# Altium integrated library National Semiconductor Amplifier.IntLib: 1665 symbols (part 13 of 44)
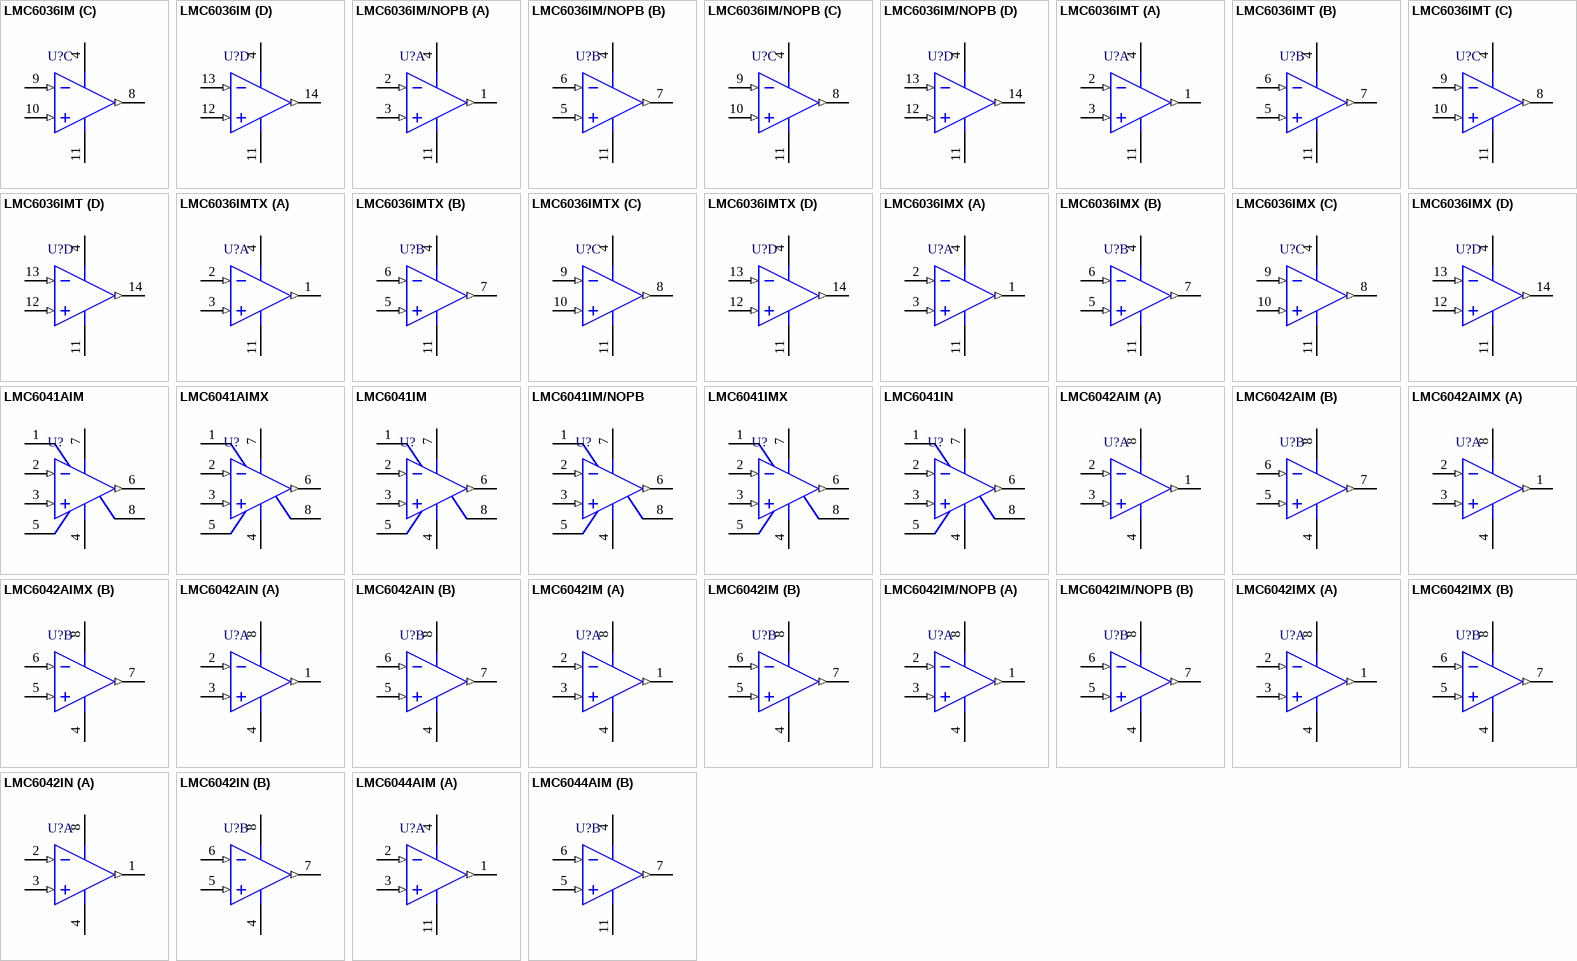
[diagram p96: symbols LMC6036IM to LMC6044AIM]

## LMC6036IMX
designator U?
Low Power 2.7V Single Supply CMOS Operational Amplifier, 14-pin Narrow SOIC; PartNumber: LMC6036IMX; Manufacturer: National Semiconductor; PackageTopMarking: NSUZXYTTE#*LMC6036IM; PowerWise: N; CompType: Amplifiers; High-Reliability: Y; DatasheetVersion: Oct-2002; PackageVersion: revJ, Jan-1996; PackageReference: M14A; PackageDescription: Molded Package S.O., .150in Wide, 14 Lead; RoHS: N; PinCount: 14; Code_JEDEC: MS-012AB; Code_IPC: SOIC127P600-14; ComponentLink1Description: Manufacturer URL; ComponentLink1URL: http://www.national.com/; ComponentLink2Description: LMC6036 Datasheet; ComponentLink2URL: http://www.national.com/ds/LM/LMC6036.pdf; ComponentLink3Description: LMC6036 Web Page; ComponentLink3URL: http://www.national.com/pf/LM/LMC6036.html; ComponentLink4Description: M14A Package Page; ComponentLink4URL: http://www.national.com/packaging/folders/m14a.html
footprint M14A_N (SOIC, 14-Leads, Body 8.6x3.9mm, Pitch 1.27mm, IPC Medium Density)
footprint M14A_L (SOIC, 14-Leads, Body 8.6x3.9mm, Pitch 1.27mm, IPC High Density)
footprint M14A_M (SOIC, 14-Leads, Body 8.6x3.9mm, Pitch 1.27mm, IPC Low Density)
pins on every part: 4 V+ (power), 11 V- (power)
part A pins: 1 OUTA (out), 2 INA- (in), 3 INA+ (in)
part B pins: 5 INB+ (in), 6 INB- (in), 7 OUTB (out)
part C pins: 8 OUTC (out), 9 INC- (in), 10 INC+ (in)
part D pins: 12 IND+ (in), 13 IND- (in), 14 OUTD (out)

## LMC6041AIM
designator U?
CMOS Single Micropower Operational Amplifier, 8-pin Narrow SOIC; PartNumber: LMC6041AIM; Manufacturer: National Semiconductor; PackageTopMarking: NSZXTT*LMC60*41AIM; PowerWise: N; CompType: Amplifiers; High-Reliability: Y; DatasheetVersion: Aug-2000; PackageVersion: revM, May-2009; PackageReference: M08A; PackageDescription: SOIC Narrow, 4.9 x 3.9 x 1.45mm, 8 Lead, 1.27mm Pitch; RoHS: N; PinCount: 8; Code_JEDEC: MS-012-AA; Code_IPC: SOIC127P600-8; ComponentLink1Description: Manufacturer URL; ComponentLink1URL: http://www.national.com/; ComponentLink2Description: LMC6041 Datasheet; ComponentLink2URL: http://www.national.com/ds/LM/LMC6041.pdf; ComponentLink3Description: LMC6041 Web Page; ComponentLink3URL: http://www.national.com/pf/LM/LMC6041.html; ComponentLink4Description: M08A Package Page; ComponentLink4URL: http://www.national.com/packaging/folders/m08a.html
footprint M08A_N (SOIC, 8-Leads, Body 4.9x3.9mm, Pitch 1.27mm, IPC Medium Density)
footprint M08A_L (SOIC, 8-Leads, Body 4.9x3.9mm, Pitch 1.27mm, IPC High Density)
footprint M08A_M (SOIC, 8-Leads, Body 4.9x3.9mm, Pitch 1.27mm, IPC Low Density)
pins: 1 NC, 2 IN- (in), 3 IN+ (in), 4 V- (power), 5 NC, 6 OUT (out), 7 V+ (power), 8 NC

## LMC6041AIMX
designator U?
CMOS Single Micropower Operational Amplifier, 8-pin Narrow SOIC; PartNumber: LMC6041AIMX; Manufacturer: National Semiconductor; PackageTopMarking: NSZXTT*LMC60*41AIM; PowerWise: N; CompType: Amplifiers; High-Reliability: Y; DatasheetVersion: Aug-2000; PackageVersion: revM, May-2009; PackageReference: M08A; PackageDescription: SOIC Narrow, 4.9 x 3.9 x 1.45mm, 8 Lead, 1.27mm Pitch; RoHS: N; PinCount: 8; Code_JEDEC: MS-012-AA; Code_IPC: SOIC127P600-8; ComponentLink1Description: Manufacturer URL; ComponentLink1URL: http://www.national.com/; ComponentLink2Description: LMC6041 Datasheet; ComponentLink2URL: http://www.national.com/ds/LM/LMC6041.pdf; ComponentLink3Description: LMC6041 Web Page; ComponentLink3URL: http://www.national.com/pf/LM/LMC6041.html; ComponentLink4Description: M08A Package Page; ComponentLink4URL: http://www.national.com/packaging/folders/m08a.html
footprint M08A_N (SOIC, 8-Leads, Body 4.9x3.9mm, Pitch 1.27mm, IPC Medium Density)
footprint M08A_L (SOIC, 8-Leads, Body 4.9x3.9mm, Pitch 1.27mm, IPC High Density)
footprint M08A_M (SOIC, 8-Leads, Body 4.9x3.9mm, Pitch 1.27mm, IPC Low Density)
pins: 1 NC, 2 IN- (in), 3 IN+ (in), 4 V- (power), 5 NC, 6 OUT (out), 7 V+ (power), 8 NC

## LMC6041IM
designator U?
CMOS Single Micropower Operational Amplifier, 8-pin Narrow SOIC; PartNumber: LMC6041IM; Manufacturer: National Semiconductor; PackageTopMarking: NSZXTT*LMC60*41IM; PowerWise: N; CompType: Amplifiers; High-Reliability: Y; DatasheetVersion: Aug-2000; PackageVersion: revM, May-2009; PackageReference: M08A; PackageDescription: SOIC Narrow, 4.9 x 3.9 x 1.45mm, 8 Lead, 1.27mm Pitch; RoHS: N; PinCount: 8; Code_JEDEC: MS-012-AA; Code_IPC: SOIC127P600-8; ComponentLink1Description: Manufacturer URL; ComponentLink1URL: http://www.national.com/; ComponentLink2Description: LMC6041 Datasheet; ComponentLink2URL: http://www.national.com/ds/LM/LMC6041.pdf; ComponentLink3Description: LMC6041 Web Page; ComponentLink3URL: http://www.national.com/pf/LM/LMC6041.html; ComponentLink4Description: M08A Package Page; ComponentLink4URL: http://www.national.com/packaging/folders/m08a.html
footprint M08A_N (SOIC, 8-Leads, Body 4.9x3.9mm, Pitch 1.27mm, IPC Medium Density)
footprint M08A_L (SOIC, 8-Leads, Body 4.9x3.9mm, Pitch 1.27mm, IPC High Density)
footprint M08A_M (SOIC, 8-Leads, Body 4.9x3.9mm, Pitch 1.27mm, IPC Low Density)
pins: 1 NC, 2 IN- (in), 3 IN+ (in), 4 V- (power), 5 NC, 6 OUT (out), 7 V+ (power), 8 NC

## LMC6041IM/NOPB
designator U?
CMOS Single Micropower Operational Amplifier, 8-pin Narrow SOIC, Pb-Free; PartNumber: LMC6041IM/NOPB; Manufacturer: National Semiconductor; PackageTopMarking: NSZXTT*LMC60*41IM; PowerWise: N; CompType: Amplifiers; High-Reliability: Y; DatasheetVersion: Aug-2000; PackageVersion: revM, May-2009; PackageReference: M08A; PackageDescription: SOIC Narrow, 4.9 x 3.9 x 1.45mm, 8 Lead, 1.27mm Pitch; RoHS: Y; PinCount: 8; Code_JEDEC: MS-012-AA; Code_IPC: SOIC127P600-8; ComponentLink1Description: Manufacturer URL; ComponentLink1URL: http://www.national.com/; ComponentLink2Description: LMC6041 Datasheet; ComponentLink2URL: http://www.national.com/ds/LM/LMC6041.pdf; ComponentLink3Description: LMC6041 Web Page; ComponentLink3URL: http://www.national.com/pf/LM/LMC6041.html; ComponentLink4Description: M08A Package Page; ComponentLink4URL: http://www.national.com/packaging/folders/m08a.html
footprint M08A_N (SOIC, 8-Leads, Body 4.9x3.9mm, Pitch 1.27mm, IPC Medium Density)
footprint M08A_L (SOIC, 8-Leads, Body 4.9x3.9mm, Pitch 1.27mm, IPC High Density)
footprint M08A_M (SOIC, 8-Leads, Body 4.9x3.9mm, Pitch 1.27mm, IPC Low Density)
pins: 1 NC, 2 IN- (in), 3 IN+ (in), 4 V- (power), 5 NC, 6 OUT (out), 7 V+ (power), 8 NC

## LMC6041IMX
designator U?
CMOS Single Micropower Operational Amplifier, 8-pin Narrow SOIC; PartNumber: LMC6041IMX; Manufacturer: National Semiconductor; PackageTopMarking: NSZXTT*LMC60*41IM; PowerWise: N; CompType: Amplifiers; High-Reliability: Y; DatasheetVersion: Aug-2000; PackageVersion: revM, May-2009; PackageReference: M08A; PackageDescription: SOIC Narrow, 4.9 x 3.9 x 1.45mm, 8 Lead, 1.27mm Pitch; RoHS: N; PinCount: 8; Code_JEDEC: MS-012-AA; Code_IPC: SOIC127P600-8; ComponentLink1Description: Manufacturer URL; ComponentLink1URL: http://www.national.com/; ComponentLink2Description: LMC6041 Datasheet; ComponentLink2URL: http://www.national.com/ds/LM/LMC6041.pdf; ComponentLink3Description: LMC6041 Web Page; ComponentLink3URL: http://www.national.com/pf/LM/LMC6041.html; ComponentLink4Description: M08A Package Page; ComponentLink4URL: http://www.national.com/packaging/folders/m08a.html
footprint M08A_N (SOIC, 8-Leads, Body 4.9x3.9mm, Pitch 1.27mm, IPC Medium Density)
footprint M08A_L (SOIC, 8-Leads, Body 4.9x3.9mm, Pitch 1.27mm, IPC High Density)
footprint M08A_M (SOIC, 8-Leads, Body 4.9x3.9mm, Pitch 1.27mm, IPC Low Density)
pins: 1 NC, 2 IN- (in), 3 IN+ (in), 4 V- (power), 5 NC, 6 OUT (out), 7 V+ (power), 8 NC

## LMC6041IN
designator U?
CMOS Single Micropower Operational Amplifier, 8-pin MDIP; PartNumber: LMC6041IN; Manufacturer: National Semiconductor; PackageTopMarking: NSUZXYTTE#*LMC60*41IN; PowerWise: N; CompType: Amplifiers; High-Reliability: Y; DatasheetVersion: Aug-2000; PackageVersion: revG, May-2006; PackageReference: N08E; PackageDescription: MDIP, .365 x .250 x .130in, 8 Lead, .100in Pitch; RoHS: N; PinCount: 8; Code_JEDEC: MS-001-BA; ComponentLink1Description: Manufacturer URL; ComponentLink1URL: http://www.national.com/; ComponentLink2Description: LMC6041 Datasheet; ComponentLink2URL: http://www.national.com/ds/LM/LMC6041.pdf; ComponentLink3Description: LMC6041 Web Page; ComponentLink3URL: http://www.national.com/pf/LM/LMC6041.html; ComponentLink4Description: N08E Package Page; ComponentLink4URL: http://www.national.com/packaging/folders/n08e.html
footprint N08E (DIP, 8-Leads, Row Spacing 7.62mm, Pitch 2.54mm, Body 9.91x6.35mm)
pins: 1 NC, 2 IN- (in), 3 IN+ (in), 4 V- (power), 5 NC, 6 OUT (out), 7 V+ (power), 8 NC

## LMC6042AIM
designator U?
CMOS Dual Micropower Operational Amplifier, 8-pin Narrow SOIC; PartNumber: LMC6042AIM; Manufacturer: National Semiconductor; PackageTopMarking: NSZXTT*LMC60*42AIM; PowerWise: Y; CompType: Amplifiers; DatasheetVersion: Aug-2000; PackageVersion: revM, May-2009; PackageReference: M08A; PackageDescription: SOIC Narrow, 4.9 x 3.9 x 1.45mm, 8 Lead, 1.27mm Pitch; RoHS: N; PinCount: 8; High-Reliability: Y; Code_JEDEC: MS-012-AA; Code_IPC: SOIC127P600-8; ComponentLink1Description: Manufacturer URL; ComponentLink1URL: http://www.national.com/; ComponentLink2Description: LMC6042 Datasheet; ComponentLink2URL: http://www.national.com/ds/LM/LMC6042.pdf; ComponentLink3Description: LMC6042 Web Page; ComponentLink3URL: http://www.national.com/pf/LM/LMC6042.html; ComponentLink4Description: M08A Package Page; ComponentLink4URL: http://www.national.com/packaging/folders/m08a.html
footprint M08A_N (SOIC, 8-Leads, Body 4.9x3.9mm, Pitch 1.27mm, IPC Medium Density)
footprint M08A_L (SOIC, 8-Leads, Body 4.9x3.9mm, Pitch 1.27mm, IPC High Density)
footprint M08A_M (SOIC, 8-Leads, Body 4.9x3.9mm, Pitch 1.27mm, IPC Low Density)
pins on every part: 4 V- (power), 8 V+ (power)
part A pins: 1 OUTA (out), 2 INA- (in), 3 INA+ (in)
part B pins: 5 INB+ (in), 6 INB- (in), 7 OUTB (out)

## LMC6042AIMX
designator U?
CMOS Dual Micropower Operational Amplifier, 8-pin Narrow SOIC; PartNumber: LMC6042AIMX; Manufacturer: National Semiconductor; PackageTopMarking: NSZXTT*LMC60*42AIM; PowerWise: Y; CompType: Amplifiers; DatasheetVersion: Aug-2000; PackageVersion: revM, May-2009; PackageReference: M08A; PackageDescription: SOIC Narrow, 4.9 x 3.9 x 1.45mm, 8 Lead, 1.27mm Pitch; RoHS: N; PinCount: 8; High-Reliability: Y; Code_JEDEC: MS-012-AA; Code_IPC: SOIC127P600-8; ComponentLink1Description: Manufacturer URL; ComponentLink1URL: http://www.national.com/; ComponentLink2Description: LMC6042 Datasheet; ComponentLink2URL: http://www.national.com/ds/LM/LMC6042.pdf; ComponentLink3Description: LMC6042 Web Page; ComponentLink3URL: http://www.national.com/pf/LM/LMC6042.html; ComponentLink4Description: M08A Package Page; ComponentLink4URL: http://www.national.com/packaging/folders/m08a.html
footprint M08A_N (SOIC, 8-Leads, Body 4.9x3.9mm, Pitch 1.27mm, IPC Medium Density)
footprint M08A_L (SOIC, 8-Leads, Body 4.9x3.9mm, Pitch 1.27mm, IPC High Density)
footprint M08A_M (SOIC, 8-Leads, Body 4.9x3.9mm, Pitch 1.27mm, IPC Low Density)
pins on every part: 4 V- (power), 8 V+ (power)
part A pins: 1 OUTA (out), 2 INA- (in), 3 INA+ (in)
part B pins: 5 INB+ (in), 6 INB- (in), 7 OUTB (out)

## LMC6042AIN
designator U?
CMOS Dual Micropower Operational Amplifier, 8-pin MDIP; PartNumber: LMC6042AIN; Manufacturer: National Semiconductor; PackageTopMarking: NSUZXYTTE#*LMC60*42AIN; PowerWise: Y; CompType: Amplifiers; DatasheetVersion: Aug-2000; PackageVersion: revG, May-2006; PackageReference: N08E; PackageDescription: MDIP, .365 x .250 x .130in, 8 Lead, .100in Pitch; RoHS: N; PinCount: 8; High-Reliability: Y; Code_JEDEC: MS-001-BA; ComponentLink1Description: Manufacturer URL; ComponentLink1URL: http://www.national.com/; ComponentLink2Description: LMC6042 Datasheet; ComponentLink2URL: http://www.national.com/ds/LM/LMC6042.pdf; ComponentLink3Description: LMC6042 Web Page; ComponentLink3URL: http://www.national.com/pf/LM/LMC6042.html; ComponentLink4Description: N08E Package Page; ComponentLink4URL: http://www.national.com/packaging/folders/n08e.html
footprint N08E (DIP, 8-Leads, Row Spacing 7.62mm, Pitch 2.54mm, Body 9.91x6.35mm)
pins on every part: 4 V- (power), 8 V+ (power)
part A pins: 1 OUTA (out), 2 INA- (in), 3 INA+ (in)
part B pins: 5 INB+ (in), 6 INB- (in), 7 OUTB (out)

## LMC6042IM
designator U?
CMOS Dual Micropower Operational Amplifier, 8-pin Narrow SOIC; PartNumber: LMC6042IM; Manufacturer: National Semiconductor; PackageTopMarking: NSZXTT*LMC60*42IM; PowerWise: Y; CompType: Amplifiers; DatasheetVersion: Aug-2000; PackageVersion: revM, May-2009; PackageReference: M08A; PackageDescription: SOIC Narrow, 4.9 x 3.9 x 1.45mm, 8 Lead, 1.27mm Pitch; RoHS: N; PinCount: 8; High-Reliability: Y; Code_JEDEC: MS-012-AA; Code_IPC: SOIC127P600-8; ComponentLink1Description: Manufacturer URL; ComponentLink1URL: http://www.national.com/; ComponentLink2Description: LMC6042 Datasheet; ComponentLink2URL: http://www.national.com/ds/LM/LMC6042.pdf; ComponentLink3Description: LMC6042 Web Page; ComponentLink3URL: http://www.national.com/pf/LM/LMC6042.html; ComponentLink4Description: M08A Package Page; ComponentLink4URL: http://www.national.com/packaging/folders/m08a.html
footprint M08A_N (SOIC, 8-Leads, Body 4.9x3.9mm, Pitch 1.27mm, IPC Medium Density)
footprint M08A_L (SOIC, 8-Leads, Body 4.9x3.9mm, Pitch 1.27mm, IPC High Density)
footprint M08A_M (SOIC, 8-Leads, Body 4.9x3.9mm, Pitch 1.27mm, IPC Low Density)
pins on every part: 4 V- (power), 8 V+ (power)
part A pins: 1 OUTA (out), 2 INA- (in), 3 INA+ (in)
part B pins: 5 INB+ (in), 6 INB- (in), 7 OUTB (out)

## LMC6042IM/NOPB
designator U?
CMOS Dual Micropower Operational Amplifier, 8-pin Narrow SOIC, Pb-Free; PartNumber: LMC6042IM/NOPB; Manufacturer: National Semiconductor; PackageTopMarking: NSZXTT*LMC60*42IM; PowerWise: Y; CompType: Amplifiers; DatasheetVersion: Aug-2000; PackageVersion: revM, May-2009; PackageReference: M08A; PackageDescription: SOIC Narrow, 4.9 x 3.9 x 1.45mm, 8 Lead, 1.27mm Pitch; RoHS: Y; PinCount: 8; High-Reliability: Y; Code_JEDEC: MS-012-AA; Code_IPC: SOIC127P600-8; ComponentLink1Description: Manufacturer URL; ComponentLink1URL: http://www.national.com/; ComponentLink2Description: LMC6042 Datasheet; ComponentLink2URL: http://www.national.com/ds/LM/LMC6042.pdf; ComponentLink3Description: LMC6042 Web Page; ComponentLink3URL: http://www.national.com/pf/LM/LMC6042.html; ComponentLink4Description: M08A Package Page; ComponentLink4URL: http://www.national.com/packaging/folders/m08a.html
footprint M08A_N (SOIC, 8-Leads, Body 4.9x3.9mm, Pitch 1.27mm, IPC Medium Density)
footprint M08A_L (SOIC, 8-Leads, Body 4.9x3.9mm, Pitch 1.27mm, IPC High Density)
footprint M08A_M (SOIC, 8-Leads, Body 4.9x3.9mm, Pitch 1.27mm, IPC Low Density)
pins on every part: 4 V- (power), 8 V+ (power)
part A pins: 1 OUTA (out), 2 INA- (in), 3 INA+ (in)
part B pins: 5 INB+ (in), 6 INB- (in), 7 OUTB (out)

## LMC6042IMX
designator U?
CMOS Dual Micropower Operational Amplifier, 8-pin Narrow SOIC; PartNumber: LMC6042IMX; Manufacturer: National Semiconductor; PackageTopMarking: NSZXTT*LMC60*42IM; PowerWise: Y; CompType: Amplifiers; DatasheetVersion: Aug-2000; PackageVersion: revM, May-2009; PackageReference: M08A; PackageDescription: SOIC Narrow, 4.9 x 3.9 x 1.45mm, 8 Lead, 1.27mm Pitch; RoHS: N; PinCount: 8; High-Reliability: Y; Code_JEDEC: MS-012-AA; Code_IPC: SOIC127P600-8; ComponentLink1Description: Manufacturer URL; ComponentLink1URL: http://www.national.com/; ComponentLink2Description: LMC6042 Datasheet; ComponentLink2URL: http://www.national.com/ds/LM/LMC6042.pdf; ComponentLink3Description: LMC6042 Web Page; ComponentLink3URL: http://www.national.com/pf/LM/LMC6042.html; ComponentLink4Description: M08A Package Page; ComponentLink4URL: http://www.national.com/packaging/folders/m08a.html
footprint M08A_N (SOIC, 8-Leads, Body 4.9x3.9mm, Pitch 1.27mm, IPC Medium Density)
footprint M08A_L (SOIC, 8-Leads, Body 4.9x3.9mm, Pitch 1.27mm, IPC High Density)
footprint M08A_M (SOIC, 8-Leads, Body 4.9x3.9mm, Pitch 1.27mm, IPC Low Density)
pins on every part: 4 V- (power), 8 V+ (power)
part A pins: 1 OUTA (out), 2 INA- (in), 3 INA+ (in)
part B pins: 5 INB+ (in), 6 INB- (in), 7 OUTB (out)

## LMC6042IN
designator U?
CMOS Dual Micropower Operational Amplifier, 8-pin MDIP; PartNumber: LMC6042IN; Manufacturer: National Semiconductor; PackageTopMarking: NSUZXYTTE#*LMC60*42IN; PowerWise: Y; CompType: Amplifiers; DatasheetVersion: Aug-2000; PackageVersion: revG, May-2006; PackageReference: N08E; PackageDescription: MDIP, .365 x .250 x .130in, 8 Lead, .100in Pitch; RoHS: N; PinCount: 8; High-Reliability: Y; Code_JEDEC: MS-001-BA; ComponentLink1Description: Manufacturer URL; ComponentLink1URL: http://www.national.com/; ComponentLink2Description: LMC6042 Datasheet; ComponentLink2URL: http://www.national.com/ds/LM/LMC6042.pdf; ComponentLink3Description: LMC6042 Web Page; ComponentLink3URL: http://www.national.com/pf/LM/LMC6042.html; ComponentLink4Description: N08E Package Page; ComponentLink4URL: http://www.national.com/packaging/folders/n08e.html
footprint N08E (DIP, 8-Leads, Row Spacing 7.62mm, Pitch 2.54mm, Body 9.91x6.35mm)
pins on every part: 4 V- (power), 8 V+ (power)
part A pins: 1 OUTA (out), 2 INA- (in), 3 INA+ (in)
part B pins: 5 INB+ (in), 6 INB- (in), 7 OUTB (out)

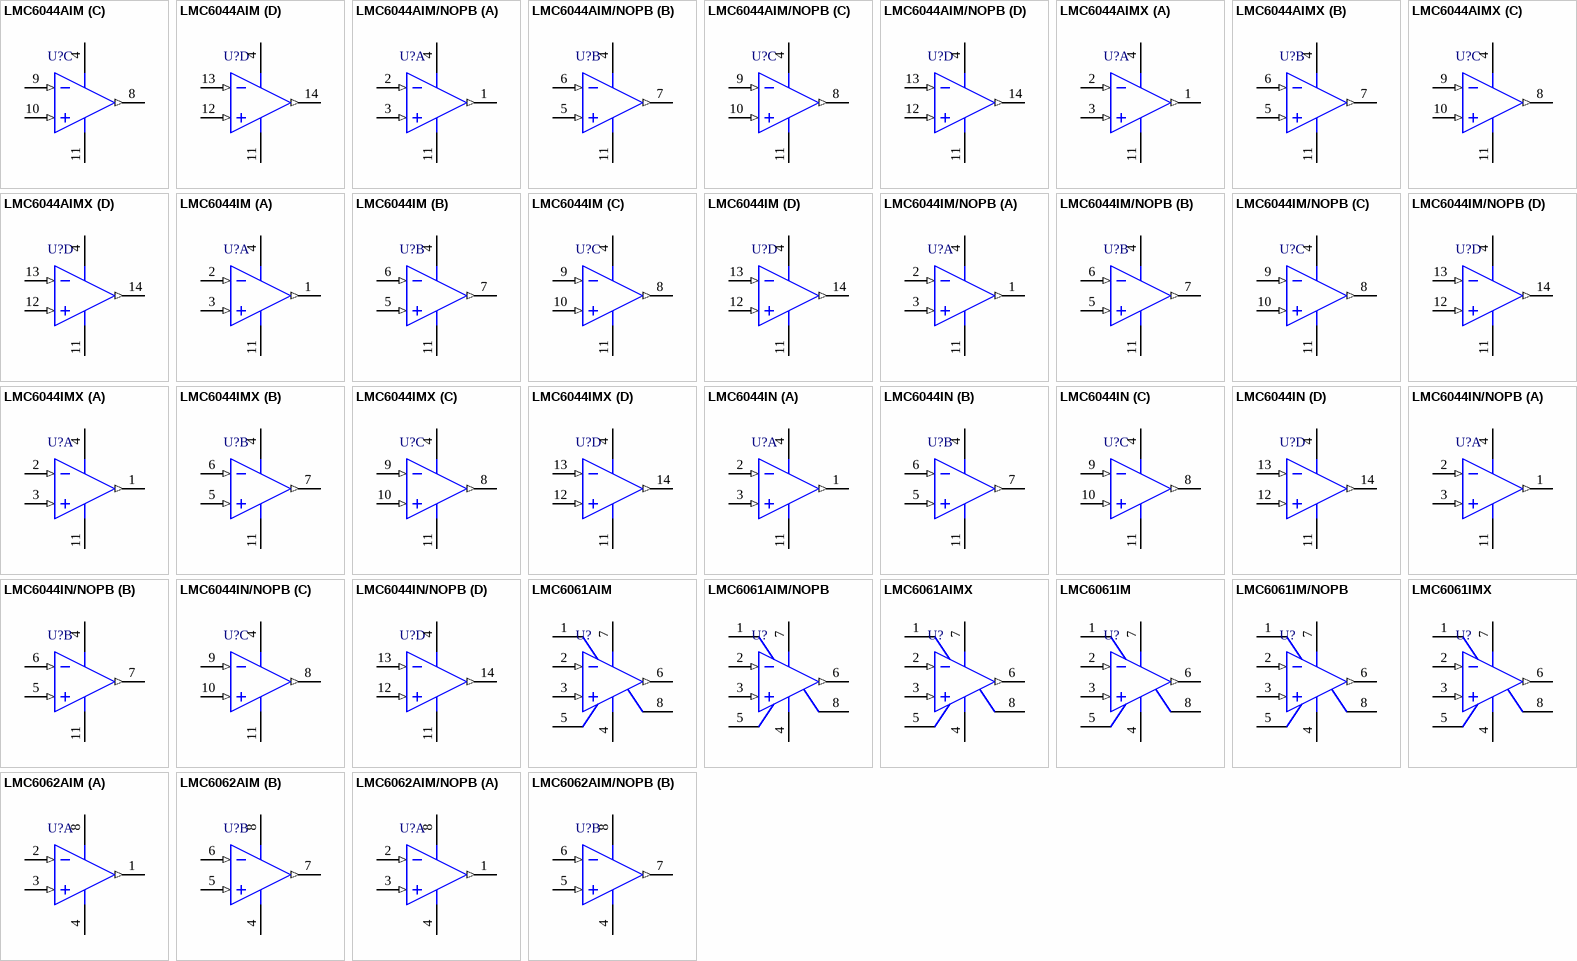
[diagram p29: symbols LMC6044AIM to LMC6062AIM/NOPB]

## LMC6044AIM
designator U?
CMOS Quad Micropower Operational Amplifier, 14-pin Narrow SOIC; PartNumber: LMC6044AIM; Manufacturer: National Semiconductor; PackageTopMarking: NSUZXYTTE#*LMC6044*AIM; PowerWise: Y; CompType: Amplifiers; DatasheetVersion: Aug-2000; PackageVersion: revJ, Jan-1996; PackageReference: M14A; PackageDescription: Molded Package S.O., .150in Wide, 14 Lead; RoHS: N; PinCount: 14; High-Reliability: Y; Code_JEDEC: MS-012AB; Code_IPC: SOIC127P600-14; ComponentLink1Description: Manufacturer URL; ComponentLink1URL: http://www.national.com/; ComponentLink2Description: LMC6044 Datasheet; ComponentLink2URL: http://www.national.com/ds/LM/LMC6044.pdf; ComponentLink3Description: LMC6044 Web Page; ComponentLink3URL: http://www.national.com/pf/LM/LMC6044.html; ComponentLink4Description: M14A Package Page; ComponentLink4URL: http://www.national.com/packaging/folders/m14a.html
footprint M14A_N (SOIC, 14-Leads, Body 8.6x3.9mm, Pitch 1.27mm, IPC Medium Density)
footprint M14A_L (SOIC, 14-Leads, Body 8.6x3.9mm, Pitch 1.27mm, IPC High Density)
footprint M14A_M (SOIC, 14-Leads, Body 8.6x3.9mm, Pitch 1.27mm, IPC Low Density)
pins on every part: 4 V+ (power), 11 V- (power)
part A pins: 1 OUT1 (out), 2 IN1- (in), 3 IN1+ (in)
part B pins: 5 IN2+ (in), 6 IN2- (in), 7 OUT2 (out)
part C pins: 8 OUT3 (out), 9 IN3- (in), 10 IN3+ (in)
part D pins: 12 IN4+ (in), 13 IN4- (in), 14 OUT4 (out)

## LMC6044AIM/NOPB
designator U?
CMOS Quad Micropower Operational Amplifier, 14-pin Narrow SOIC, Pb-Free; PartNumber: LMC6044AIM/NOPB; Manufacturer: National Semiconductor; PackageTopMarking: NSUZXYTTE#*LMC6044*AIM; PowerWise: Y; CompType: Amplifiers; DatasheetVersion: Aug-2000; PackageVersion: revJ, Jan-1996; PackageReference: M14A; PackageDescription: Molded Package S.O., .150in Wide, 14 Lead; RoHS: Y; PinCount: 14; High-Reliability: Y; Code_JEDEC: MS-012AB; Code_IPC: SOIC127P600-14; ComponentLink1Description: Manufacturer URL; ComponentLink1URL: http://www.national.com/; ComponentLink2Description: LMC6044 Datasheet; ComponentLink2URL: http://www.national.com/ds/LM/LMC6044.pdf; ComponentLink3Description: LMC6044 Web Page; ComponentLink3URL: http://www.national.com/pf/LM/LMC6044.html; ComponentLink4Description: M14A Package Page; ComponentLink4URL: http://www.national.com/packaging/folders/m14a.html
footprint M14A_N (SOIC, 14-Leads, Body 8.6x3.9mm, Pitch 1.27mm, IPC Medium Density)
footprint M14A_L (SOIC, 14-Leads, Body 8.6x3.9mm, Pitch 1.27mm, IPC High Density)
footprint M14A_M (SOIC, 14-Leads, Body 8.6x3.9mm, Pitch 1.27mm, IPC Low Density)
pins on every part: 4 V+ (power), 11 V- (power)
part A pins: 1 OUT1 (out), 2 IN1- (in), 3 IN1+ (in)
part B pins: 5 IN2+ (in), 6 IN2- (in), 7 OUT2 (out)
part C pins: 8 OUT3 (out), 9 IN3- (in), 10 IN3+ (in)
part D pins: 12 IN4+ (in), 13 IN4- (in), 14 OUT4 (out)

## LMC6044AIMX
designator U?
CMOS Quad Micropower Operational Amplifier, 14-pin Narrow SOIC; PartNumber: LMC6044AIMX; Manufacturer: National Semiconductor; PackageTopMarking: NSUZXYTTE#*LMC6044*AIM; PowerWise: Y; CompType: Amplifiers; DatasheetVersion: Aug-2000; PackageVersion: revJ, Jan-1996; PackageReference: M14A; PackageDescription: Molded Package S.O., .150in Wide, 14 Lead; RoHS: N; PinCount: 14; High-Reliability: Y; Code_JEDEC: MS-012AB; Code_IPC: SOIC127P600-14; ComponentLink1Description: Manufacturer URL; ComponentLink1URL: http://www.national.com/; ComponentLink2Description: LMC6044 Datasheet; ComponentLink2URL: http://www.national.com/ds/LM/LMC6044.pdf; ComponentLink3Description: LMC6044 Web Page; ComponentLink3URL: http://www.national.com/pf/LM/LMC6044.html; ComponentLink4Description: M14A Package Page; ComponentLink4URL: http://www.national.com/packaging/folders/m14a.html
footprint M14A_N (SOIC, 14-Leads, Body 8.6x3.9mm, Pitch 1.27mm, IPC Medium Density)
footprint M14A_L (SOIC, 14-Leads, Body 8.6x3.9mm, Pitch 1.27mm, IPC High Density)
footprint M14A_M (SOIC, 14-Leads, Body 8.6x3.9mm, Pitch 1.27mm, IPC Low Density)
pins on every part: 4 V+ (power), 11 V- (power)
part A pins: 1 OUT1 (out), 2 IN1- (in), 3 IN1+ (in)
part B pins: 5 IN2+ (in), 6 IN2- (in), 7 OUT2 (out)
part C pins: 8 OUT3 (out), 9 IN3- (in), 10 IN3+ (in)
part D pins: 12 IN4+ (in), 13 IN4- (in), 14 OUT4 (out)

## LMC6044IM
designator U?
CMOS Quad Micropower Operational Amplifier, 14-pin Narrow SOIC; PartNumber: LMC6044IM; Manufacturer: National Semiconductor; PackageTopMarking: NSUZXYTTE#*LMC6044IM; PowerWise: Y; CompType: Amplifiers; DatasheetVersion: Aug-2000; PackageVersion: revJ, Jan-1996; PackageReference: M14A; PackageDescription: Molded Package S.O., .150in Wide, 14 Lead; RoHS: N; PinCount: 14; High-Reliability: Y; Code_JEDEC: MS-012AB; Code_IPC: SOIC127P600-14; ComponentLink1Description: Manufacturer URL; ComponentLink1URL: http://www.national.com/; ComponentLink2Description: LMC6044 Datasheet; ComponentLink2URL: http://www.national.com/ds/LM/LMC6044.pdf; ComponentLink3Description: LMC6044 Web Page; ComponentLink3URL: http://www.national.com/pf/LM/LMC6044.html; ComponentLink4Description: M14A Package Page; ComponentLink4URL: http://www.national.com/packaging/folders/m14a.html
footprint M14A_N (SOIC, 14-Leads, Body 8.6x3.9mm, Pitch 1.27mm, IPC Medium Density)
footprint M14A_L (SOIC, 14-Leads, Body 8.6x3.9mm, Pitch 1.27mm, IPC High Density)
footprint M14A_M (SOIC, 14-Leads, Body 8.6x3.9mm, Pitch 1.27mm, IPC Low Density)
pins on every part: 4 V+ (power), 11 V- (power)
part A pins: 1 OUT1 (out), 2 IN1- (in), 3 IN1+ (in)
part B pins: 5 IN2+ (in), 6 IN2- (in), 7 OUT2 (out)
part C pins: 8 OUT3 (out), 9 IN3- (in), 10 IN3+ (in)
part D pins: 12 IN4+ (in), 13 IN4- (in), 14 OUT4 (out)

## LMC6044IM/NOPB
designator U?
CMOS Quad Micropower Operational Amplifier, 14-pin Narrow SOIC, Pb-Free; PartNumber: LMC6044IM/NOPB; Manufacturer: National Semiconductor; PackageTopMarking: NSUZXYTTE#*LMC6044IM; PowerWise: Y; CompType: Amplifiers; DatasheetVersion: Aug-2000; PackageVersion: revJ, Jan-1996; PackageReference: M14A; PackageDescription: Molded Package S.O., .150in Wide, 14 Lead; RoHS: Y; PinCount: 14; High-Reliability: Y; Code_JEDEC: MS-012AB; Code_IPC: SOIC127P600-14; ComponentLink1Description: Manufacturer URL; ComponentLink1URL: http://www.national.com/; ComponentLink2Description: LMC6044 Datasheet; ComponentLink2URL: http://www.national.com/ds/LM/LMC6044.pdf; ComponentLink3Description: LMC6044 Web Page; ComponentLink3URL: http://www.national.com/pf/LM/LMC6044.html; ComponentLink4Description: M14A Package Page; ComponentLink4URL: http://www.national.com/packaging/folders/m14a.html
footprint M14A_N (SOIC, 14-Leads, Body 8.6x3.9mm, Pitch 1.27mm, IPC Medium Density)
footprint M14A_L (SOIC, 14-Leads, Body 8.6x3.9mm, Pitch 1.27mm, IPC High Density)
footprint M14A_M (SOIC, 14-Leads, Body 8.6x3.9mm, Pitch 1.27mm, IPC Low Density)
pins on every part: 4 V+ (power), 11 V- (power)
part A pins: 1 OUT1 (out), 2 IN1- (in), 3 IN1+ (in)
part B pins: 5 IN2+ (in), 6 IN2- (in), 7 OUT2 (out)
part C pins: 8 OUT3 (out), 9 IN3- (in), 10 IN3+ (in)
part D pins: 12 IN4+ (in), 13 IN4- (in), 14 OUT4 (out)

## LMC6044IMX
designator U?
CMOS Quad Micropower Operational Amplifier, 14-pin Narrow SOIC; PartNumber: LMC6044IMX; Manufacturer: National Semiconductor; PackageTopMarking: NSUZXYTTE#*LMC6044IM; PowerWise: Y; CompType: Amplifiers; DatasheetVersion: Aug-2000; PackageVersion: revJ, Jan-1996; PackageReference: M14A; PackageDescription: Molded Package S.O., .150in Wide, 14 Lead; RoHS: N; PinCount: 14; High-Reliability: Y; Code_JEDEC: MS-012AB; Code_IPC: SOIC127P600-14; ComponentLink1Description: Manufacturer URL; ComponentLink1URL: http://www.national.com/; ComponentLink2Description: LMC6044 Datasheet; ComponentLink2URL: http://www.national.com/ds/LM/LMC6044.pdf; ComponentLink3Description: LMC6044 Web Page; ComponentLink3URL: http://www.national.com/pf/LM/LMC6044.html; ComponentLink4Description: M14A Package Page; ComponentLink4URL: http://www.national.com/packaging/folders/m14a.html
footprint M14A_N (SOIC, 14-Leads, Body 8.6x3.9mm, Pitch 1.27mm, IPC Medium Density)
footprint M14A_L (SOIC, 14-Leads, Body 8.6x3.9mm, Pitch 1.27mm, IPC High Density)
footprint M14A_M (SOIC, 14-Leads, Body 8.6x3.9mm, Pitch 1.27mm, IPC Low Density)
pins on every part: 4 V+ (power), 11 V- (power)
part A pins: 1 OUT1 (out), 2 IN1- (in), 3 IN1+ (in)
part B pins: 5 IN2+ (in), 6 IN2- (in), 7 OUT2 (out)
part C pins: 8 OUT3 (out), 9 IN3- (in), 10 IN3+ (in)
part D pins: 12 IN4+ (in), 13 IN4- (in), 14 OUT4 (out)

## LMC6044IN
designator U?
CMOS Quad Micropower Operational Amplifier, 14-pin MDIP; PartNumber: LMC6044IN; Manufacturer: National Semiconductor; PackageTopMarking: NSUZXYYTTE#*LMC6044IN; PowerWise: Y; CompType: Amplifiers; DatasheetVersion: Aug-2000; PackageVersion: revG, May-2006; PackageReference: N14A; PackageDescription: MDIP, .750 x .250 x.130in, 14 Lead, .100in Pitch; RoHS: N; PinCount: 14; High-Reliability: Y; Code_JEDEC: MS-001-AA; ComponentLink1Description: Manufacturer URL; ComponentLink1URL: http://www.national.com/; ComponentLink2Description: LMC6044 Datasheet; ComponentLink2URL: http://www.national.com/ds/LM/LMC6044.pdf; ComponentLink3Description: LMC6044 Web Page; ComponentLink3URL: http://www.national.com/pf/LM/LMC6044.html; ComponentLink4Description: N14A Package Page; ComponentLink4URL: http://www.national.com/packaging/folders/n14a.html
footprint N14A (DIP, 14-Leads, Row Spacing 7.62mm, Pitch 2.54mm, Body 19.56x6.35mm)
pins on every part: 4 V+ (power), 11 V- (power)
part A pins: 1 OUT1 (out), 2 IN1- (in), 3 IN1+ (in)
part B pins: 5 IN2+ (in), 6 IN2- (in), 7 OUT2 (out)
part C pins: 8 OUT3 (out), 9 IN3- (in), 10 IN3+ (in)
part D pins: 12 IN4+ (in), 13 IN4- (in), 14 OUT4 (out)

## LMC6044IN/NOPB
designator U?
CMOS Quad Micropower Operational Amplifier, 14-pin MDIP, Pb-Free; PartNumber: LMC6044IN/NOPB; Manufacturer: National Semiconductor; PackageTopMarking: NSUZXYYTTE#*LMC6044IN; PowerWise: Y; CompType: Amplifiers; DatasheetVersion: Aug-2000; PackageVersion: revG, May-2006; PackageReference: N14A; PackageDescription: MDIP, .750 x .250 x.130in, 14 Lead, .100in Pitch; RoHS: Y; PinCount: 14; High-Reliability: Y; Code_JEDEC: MS-001-AA; ComponentLink1Description: Manufacturer URL; ComponentLink1URL: http://www.national.com/; ComponentLink2Description: LMC6044 Datasheet; ComponentLink2URL: http://www.national.com/ds/LM/LMC6044.pdf; ComponentLink3Description: LMC6044 Web Page; ComponentLink3URL: http://www.national.com/pf/LM/LMC6044.html; ComponentLink4Description: N14A Package Page; ComponentLink4URL: http://www.national.com/packaging/folders/n14a.html
footprint N14A (DIP, 14-Leads, Row Spacing 7.62mm, Pitch 2.54mm, Body 19.56x6.35mm)
pins on every part: 4 V+ (power), 11 V- (power)
part A pins: 1 OUT1 (out), 2 IN1- (in), 3 IN1+ (in)
part B pins: 5 IN2+ (in), 6 IN2- (in), 7 OUT2 (out)
part C pins: 8 OUT3 (out), 9 IN3- (in), 10 IN3+ (in)
part D pins: 12 IN4+ (in), 13 IN4- (in), 14 OUT4 (out)

## LMC6061AIM
designator U?
Precision CMOS Single Micropower Operational Amplifier, 8-pin Narrow SOIC; PartNumber: LMC6061AIM; Manufacturer: National Semiconductor; PackageTopMarking: NSZXTT*LMC60*61AIM; PowerWise: N; CompType: Amplifiers; High-Reliability: Y; DatasheetVersion: Apr-2001; PackageVersion: revM, May-2009; PackageReference: M08A; PackageDescription: SOIC Narrow, 4.9 x 3.9 x 1.45mm, 8 Lead, 1.27mm Pitch; RoHS: N; PinCount: 8; Code_JEDEC: MS-012-AA; Code_IPC: SOIC127P600-8; ComponentLink1Description: Manufacturer URL; ComponentLink1URL: http://www.national.com/; ComponentLink2Description: LMC6061 Datasheet; ComponentLink2URL: http://www.national.com/ds/LM/LMC6061.pdf; ComponentLink3Description: LMC6061 Web Page; ComponentLink3URL: http://www.national.com/pf/LM/LMC6061.html; ComponentLink4Description: M08A Package Page; ComponentLink4URL: http://www.national.com/packaging/folders/m08a.html
footprint M08A_N (SOIC, 8-Leads, Body 4.9x3.9mm, Pitch 1.27mm, IPC Medium Density)
footprint M08A_L (SOIC, 8-Leads, Body 4.9x3.9mm, Pitch 1.27mm, IPC High Density)
footprint M08A_M (SOIC, 8-Leads, Body 4.9x3.9mm, Pitch 1.27mm, IPC Low Density)
pins: 1 NC, 2 IN- (in), 3 IN+ (in), 4 V- (power), 5 NC, 6 OUT (out), 7 V+ (power), 8 NC

## LMC6061AIM/NOPB
designator U?
Precision CMOS Single Micropower Operational Amplifier, 8-pin Narrow SOIC, Pb-Free; PartNumber: LMC6061AIM/NOPB; Manufacturer: National Semiconductor; PackageTopMarking: NSZXTT*LMC60*61AIM; PowerWise: N; CompType: Amplifiers; High-Reliability: Y; DatasheetVersion: Apr-2001; PackageVersion: revM, May-2009; PackageReference: M08A; PackageDescription: SOIC Narrow, 4.9 x 3.9 x 1.45mm, 8 Lead, 1.27mm Pitch; RoHS: Y; PinCount: 8; Code_JEDEC: MS-012-AA; Code_IPC: SOIC127P600-8; ComponentLink1Description: Manufacturer URL; ComponentLink1URL: http://www.national.com/; ComponentLink2Description: LMC6061 Datasheet; ComponentLink2URL: http://www.national.com/ds/LM/LMC6061.pdf; ComponentLink3Description: LMC6061 Web Page; ComponentLink3URL: http://www.national.com/pf/LM/LMC6061.html; ComponentLink4Description: M08A Package Page; ComponentLink4URL: http://www.national.com/packaging/folders/m08a.html
footprint M08A_N (SOIC, 8-Leads, Body 4.9x3.9mm, Pitch 1.27mm, IPC Medium Density)
footprint M08A_L (SOIC, 8-Leads, Body 4.9x3.9mm, Pitch 1.27mm, IPC High Density)
footprint M08A_M (SOIC, 8-Leads, Body 4.9x3.9mm, Pitch 1.27mm, IPC Low Density)
pins: 1 NC, 2 IN- (in), 3 IN+ (in), 4 V- (power), 5 NC, 6 OUT (out), 7 V+ (power), 8 NC

## LMC6061AIMX
designator U?
Precision CMOS Single Micropower Operational Amplifier, 8-pin Narrow SOIC; PartNumber: LMC6061AIMX; Manufacturer: National Semiconductor; PackageTopMarking: NSZXTT*LMC60*61AIM; PowerWise: N; CompType: Amplifiers; High-Reliability: Y; DatasheetVersion: Apr-2001; PackageVersion: revM, May-2009; PackageReference: M08A; PackageDescription: SOIC Narrow, 4.9 x 3.9 x 1.45mm, 8 Lead, 1.27mm Pitch; RoHS: N; PinCount: 8; Code_JEDEC: MS-012-AA; Code_IPC: SOIC127P600-8; ComponentLink1Description: Manufacturer URL; ComponentLink1URL: http://www.national.com/; ComponentLink2Description: LMC6061 Datasheet; ComponentLink2URL: http://www.national.com/ds/LM/LMC6061.pdf; ComponentLink3Description: LMC6061 Web Page; ComponentLink3URL: http://www.national.com/pf/LM/LMC6061.html; ComponentLink4Description: M08A Package Page; ComponentLink4URL: http://www.national.com/packaging/folders/m08a.html
footprint M08A_N (SOIC, 8-Leads, Body 4.9x3.9mm, Pitch 1.27mm, IPC Medium Density)
footprint M08A_L (SOIC, 8-Leads, Body 4.9x3.9mm, Pitch 1.27mm, IPC High Density)
footprint M08A_M (SOIC, 8-Leads, Body 4.9x3.9mm, Pitch 1.27mm, IPC Low Density)
pins: 1 NC, 2 IN- (in), 3 IN+ (in), 4 V- (power), 5 NC, 6 OUT (out), 7 V+ (power), 8 NC

## LMC6061IM
designator U?
Precision CMOS Single Micropower Operational Amplifier, 8-pin Narrow SOIC; PartNumber: LMC6061IM; Manufacturer: National Semiconductor; PackageTopMarking: NSZXTT*LMC60*61IM; PowerWise: N; CompType: Amplifiers; High-Reliability: Y; DatasheetVersion: Apr-2001; PackageVersion: revM, May-2009; PackageReference: M08A; PackageDescription: SOIC Narrow, 4.9 x 3.9 x 1.45mm, 8 Lead, 1.27mm Pitch; RoHS: N; PinCount: 8; Code_JEDEC: MS-012-AA; Code_IPC: SOIC127P600-8; ComponentLink1Description: Manufacturer URL; ComponentLink1URL: http://www.national.com/; ComponentLink2Description: LMC6061 Datasheet; ComponentLink2URL: http://www.national.com/ds/LM/LMC6061.pdf; ComponentLink3Description: LMC6061 Web Page; ComponentLink3URL: http://www.national.com/pf/LM/LMC6061.html; ComponentLink4Description: M08A Package Page; ComponentLink4URL: http://www.national.com/packaging/folders/m08a.html
footprint M08A_N (SOIC, 8-Leads, Body 4.9x3.9mm, Pitch 1.27mm, IPC Medium Density)
footprint M08A_L (SOIC, 8-Leads, Body 4.9x3.9mm, Pitch 1.27mm, IPC High Density)
footprint M08A_M (SOIC, 8-Leads, Body 4.9x3.9mm, Pitch 1.27mm, IPC Low Density)
pins: 1 NC, 2 IN- (in), 3 IN+ (in), 4 V- (power), 5 NC, 6 OUT (out), 7 V+ (power), 8 NC

## LMC6061IM/NOPB
designator U?
Precision CMOS Single Micropower Operational Amplifier, 8-pin Narrow SOIC, Pb-Free; PartNumber: LMC6061IM/NOPB; Manufacturer: National Semiconductor; PackageTopMarking: NSZXTT*LMC60*61IM; PowerWise: N; CompType: Amplifiers; High-Reliability: Y; DatasheetVersion: Apr-2001; PackageVersion: revM, May-2009; PackageReference: M08A; PackageDescription: SOIC Narrow, 4.9 x 3.9 x 1.45mm, 8 Lead, 1.27mm Pitch; RoHS: Y; PinCount: 8; Code_JEDEC: MS-012-AA; Code_IPC: SOIC127P600-8; ComponentLink1Description: Manufacturer URL; ComponentLink1URL: http://www.national.com/; ComponentLink2Description: LMC6061 Datasheet; ComponentLink2URL: http://www.national.com/ds/LM/LMC6061.pdf; ComponentLink3Description: LMC6061 Web Page; ComponentLink3URL: http://www.national.com/pf/LM/LMC6061.html; ComponentLink4Description: M08A Package Page; ComponentLink4URL: http://www.national.com/packaging/folders/m08a.html
footprint M08A_N (SOIC, 8-Leads, Body 4.9x3.9mm, Pitch 1.27mm, IPC Medium Density)
footprint M08A_L (SOIC, 8-Leads, Body 4.9x3.9mm, Pitch 1.27mm, IPC High Density)
footprint M08A_M (SOIC, 8-Leads, Body 4.9x3.9mm, Pitch 1.27mm, IPC Low Density)
pins: 1 NC, 2 IN- (in), 3 IN+ (in), 4 V- (power), 5 NC, 6 OUT (out), 7 V+ (power), 8 NC

## LMC6061IMX
designator U?
Precision CMOS Single Micropower Operational Amplifier, 8-pin Narrow SOIC; PartNumber: LMC6061IMX; Manufacturer: National Semiconductor; PackageTopMarking: NSZXTT*LMC60*61IM; PowerWise: N; CompType: Amplifiers; High-Reliability: Y; DatasheetVersion: Apr-2001; PackageVersion: revM, May-2009; PackageReference: M08A; PackageDescription: SOIC Narrow, 4.9 x 3.9 x 1.45mm, 8 Lead, 1.27mm Pitch; RoHS: N; PinCount: 8; Code_JEDEC: MS-012-AA; Code_IPC: SOIC127P600-8; ComponentLink1Description: Manufacturer URL; ComponentLink1URL: http://www.national.com/; ComponentLink2Description: LMC6061 Datasheet; ComponentLink2URL: http://www.national.com/ds/LM/LMC6061.pdf; ComponentLink3Description: LMC6061 Web Page; ComponentLink3URL: http://www.national.com/pf/LM/LMC6061.html; ComponentLink4Description: M08A Package Page; ComponentLink4URL: http://www.national.com/packaging/folders/m08a.html
footprint M08A_N (SOIC, 8-Leads, Body 4.9x3.9mm, Pitch 1.27mm, IPC Medium Density)
footprint M08A_L (SOIC, 8-Leads, Body 4.9x3.9mm, Pitch 1.27mm, IPC High Density)
footprint M08A_M (SOIC, 8-Leads, Body 4.9x3.9mm, Pitch 1.27mm, IPC Low Density)
pins: 1 NC, 2 IN- (in), 3 IN+ (in), 4 V- (power), 5 NC, 6 OUT (out), 7 V+ (power), 8 NC

## LMC6062AIM
designator U?
Precision CMOS Dual Micropower Operational Amplifier, 8-pin Narrow SOIC; PartNumber: LMC6062AIM; Manufacturer: National Semiconductor; PackageTopMarking: NSZXTT*LMC60*62AIM; PowerWise: N; CompType: Amplifiers; High-Reliability: Y; DatasheetVersion: Feb-2001; PackageVersion: revM, May-2009; PackageReference: M08A; PackageDescription: SOIC Narrow, 4.9 x 3.9 x 1.45mm, 8 Lead, 1.27mm Pitch; RoHS: N; PinCount: 8; Code_JEDEC: MS-012-AA; Code_IPC: SOIC127P600-8; ComponentLink1Description: Manufacturer URL; ComponentLink1URL: http://www.national.com/; ComponentLink2Description: LMC6062 Datasheet; ComponentLink2URL: http://www.national.com/ds/LM/LMC6062.pdf; ComponentLink3Description: LMC6062 Web Page; ComponentLink3URL: http://www.national.com/pf/LM/LMC6062.html; ComponentLink4Description: M08A Package Page; ComponentLink4URL: http://www.national.com/packaging/folders/m08a.html
footprint M08A_N (SOIC, 8-Leads, Body 4.9x3.9mm, Pitch 1.27mm, IPC Medium Density)
footprint M08A_L (SOIC, 8-Leads, Body 4.9x3.9mm, Pitch 1.27mm, IPC High Density)
footprint M08A_M (SOIC, 8-Leads, Body 4.9x3.9mm, Pitch 1.27mm, IPC Low Density)
pins on every part: 4 V- (power), 8 V+ (power)
part A pins: 1 OUTA (out), 2 INA- (in), 3 INA+ (in)
part B pins: 5 INB+ (in), 6 INB- (in), 7 OUTB (out)

## LMC6062AIM/NOPB
designator U?
Precision CMOS Dual Micropower Operational Amplifier, 8-pin Narrow SOIC, Pb-Free; PartNumber: LMC6062AIM/NOPB; Manufacturer: National Semiconductor; PackageTopMarking: NSZXTT*LMC60*62AIM; PowerWise: N; CompType: Amplifiers; High-Reliability: Y; DatasheetVersion: Feb-2001; PackageVersion: revM, May-2009; PackageReference: M08A; PackageDescription: SOIC Narrow, 4.9 x 3.9 x 1.45mm, 8 Lead, 1.27mm Pitch; RoHS: Y; PinCount: 8; Code_JEDEC: MS-012-AA; Code_IPC: SOIC127P600-8; ComponentLink1Description: Manufacturer URL; ComponentLink1URL: http://www.national.com/; ComponentLink2Description: LMC6062 Datasheet; ComponentLink2URL: http://www.national.com/ds/LM/LMC6062.pdf; ComponentLink3Description: LMC6062 Web Page; ComponentLink3URL: http://www.national.com/pf/LM/LMC6062.html; ComponentLink4Description: M08A Package Page; ComponentLink4URL: http://www.national.com/packaging/folders/m08a.html
footprint M08A_N (SOIC, 8-Leads, Body 4.9x3.9mm, Pitch 1.27mm, IPC Medium Density)
footprint M08A_L (SOIC, 8-Leads, Body 4.9x3.9mm, Pitch 1.27mm, IPC High Density)
footprint M08A_M (SOIC, 8-Leads, Body 4.9x3.9mm, Pitch 1.27mm, IPC Low Density)
pins on every part: 4 V- (power), 8 V+ (power)
part A pins: 1 OUTA (out), 2 INA- (in), 3 INA+ (in)
part B pins: 5 INB+ (in), 6 INB- (in), 7 OUTB (out)

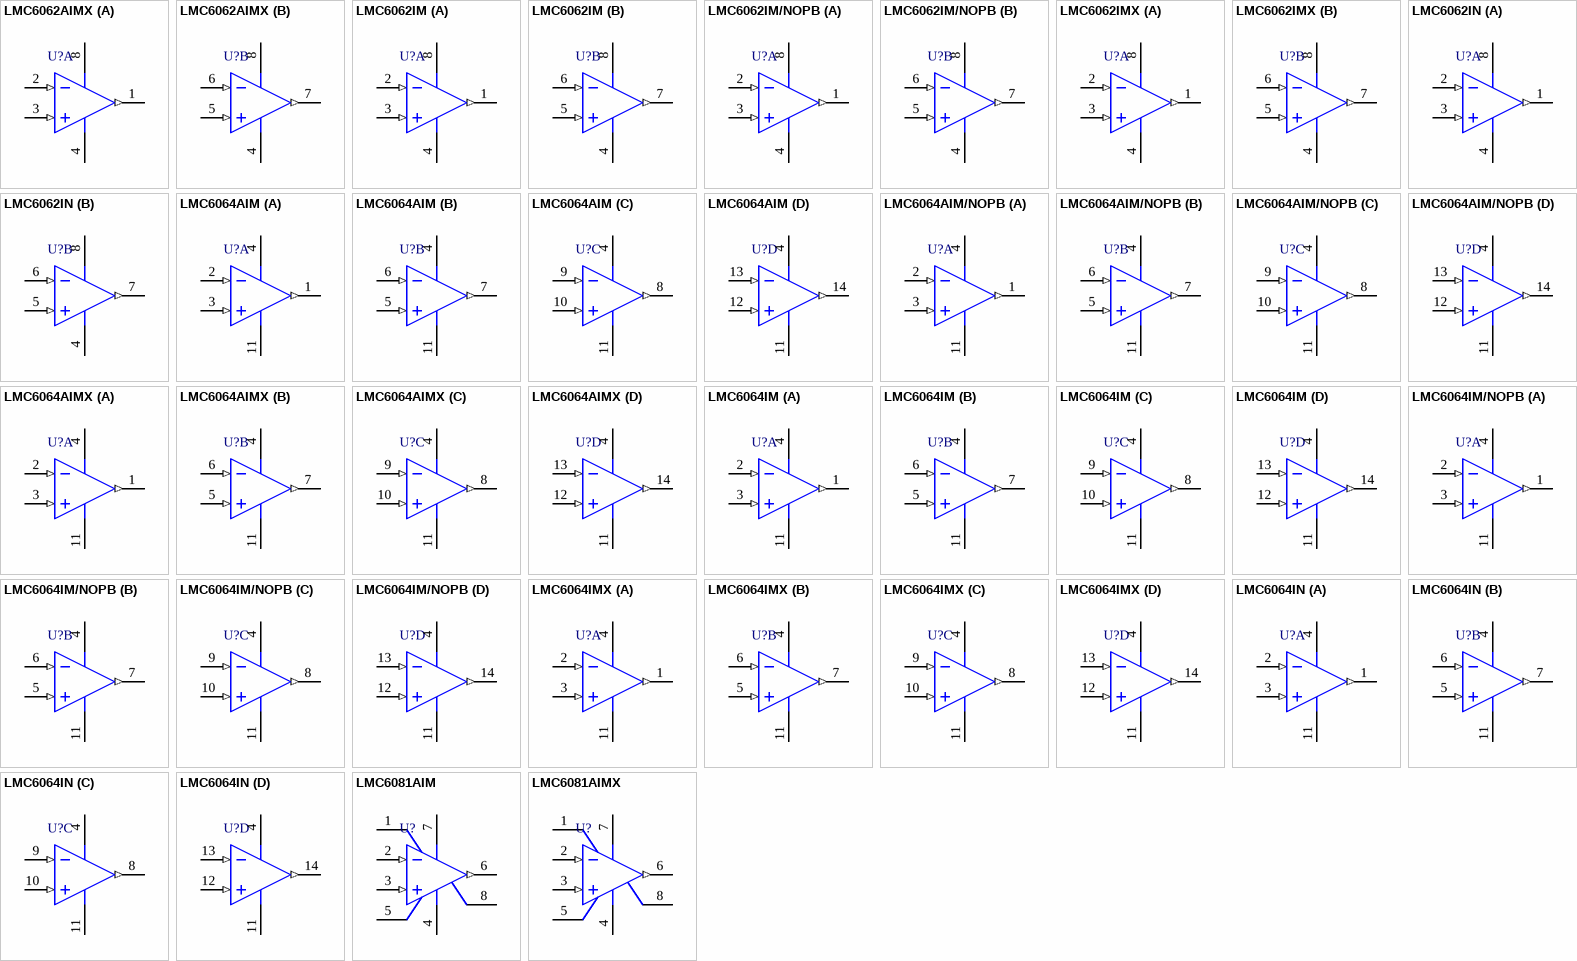
[diagram p30: symbols LMC6062AIMX to LMC6081AIMX]

## LMC6062AIMX
designator U?
Precision CMOS Dual Micropower Operational Amplifier, 8-pin Narrow SOIC; PartNumber: LMC6062AIMX; Manufacturer: National Semiconductor; PackageTopMarking: NSZXTT*LMC60*62AIM; PowerWise: N; CompType: Amplifiers; High-Reliability: Y; DatasheetVersion: Feb-2001; PackageVersion: revM, May-2009; PackageReference: M08A; PackageDescription: SOIC Narrow, 4.9 x 3.9 x 1.45mm, 8 Lead, 1.27mm Pitch; RoHS: N; PinCount: 8; Code_JEDEC: MS-012-AA; Code_IPC: SOIC127P600-8; ComponentLink1Description: Manufacturer URL; ComponentLink1URL: http://www.national.com/; ComponentLink2Description: LMC6062 Datasheet; ComponentLink2URL: http://www.national.com/ds/LM/LMC6062.pdf; ComponentLink3Description: LMC6062 Web Page; ComponentLink3URL: http://www.national.com/pf/LM/LMC6062.html; ComponentLink4Description: M08A Package Page; ComponentLink4URL: http://www.national.com/packaging/folders/m08a.html
footprint M08A_N (SOIC, 8-Leads, Body 4.9x3.9mm, Pitch 1.27mm, IPC Medium Density)
footprint M08A_L (SOIC, 8-Leads, Body 4.9x3.9mm, Pitch 1.27mm, IPC High Density)
footprint M08A_M (SOIC, 8-Leads, Body 4.9x3.9mm, Pitch 1.27mm, IPC Low Density)
pins on every part: 4 V- (power), 8 V+ (power)
part A pins: 1 OUTA (out), 2 INA- (in), 3 INA+ (in)
part B pins: 5 INB+ (in), 6 INB- (in), 7 OUTB (out)

## LMC6062IM
designator U?
Precision CMOS Dual Micropower Operational Amplifier, 8-pin Narrow SOIC; PartNumber: LMC6062IM; Manufacturer: National Semiconductor; PackageTopMarking: NSZXTT*LMC60*62IM; PowerWise: N; CompType: Amplifiers; High-Reliability: Y; DatasheetVersion: Feb-2001; PackageVersion: revM, May-2009; PackageReference: M08A; PackageDescription: SOIC Narrow, 4.9 x 3.9 x 1.45mm, 8 Lead, 1.27mm Pitch; RoHS: N; PinCount: 8; Code_JEDEC: MS-012-AA; Code_IPC: SOIC127P600-8; ComponentLink1Description: Manufacturer URL; ComponentLink1URL: http://www.national.com/; ComponentLink2Description: LMC6062 Datasheet; ComponentLink2URL: http://www.national.com/ds/LM/LMC6062.pdf; ComponentLink3Description: LMC6062 Web Page; ComponentLink3URL: http://www.national.com/pf/LM/LMC6062.html; ComponentLink4Description: M08A Package Page; ComponentLink4URL: http://www.national.com/packaging/folders/m08a.html
footprint M08A_N (SOIC, 8-Leads, Body 4.9x3.9mm, Pitch 1.27mm, IPC Medium Density)
footprint M08A_L (SOIC, 8-Leads, Body 4.9x3.9mm, Pitch 1.27mm, IPC High Density)
footprint M08A_M (SOIC, 8-Leads, Body 4.9x3.9mm, Pitch 1.27mm, IPC Low Density)
pins on every part: 4 V- (power), 8 V+ (power)
part A pins: 1 OUTA (out), 2 INA- (in), 3 INA+ (in)
part B pins: 5 INB+ (in), 6 INB- (in), 7 OUTB (out)

## LMC6062IM/NOPB
designator U?
Precision CMOS Dual Micropower Operational Amplifier, 8-pin Narrow SOIC, Pb-Free; PartNumber: LMC6062IM/NOPB; Manufacturer: National Semiconductor; PackageTopMarking: NSZXTT*LMC60*62IM; PowerWise: N; CompType: Amplifiers; High-Reliability: Y; DatasheetVersion: Feb-2001; PackageVersion: revM, May-2009; PackageReference: M08A; PackageDescription: SOIC Narrow, 4.9 x 3.9 x 1.45mm, 8 Lead, 1.27mm Pitch; RoHS: Y; PinCount: 8; Code_JEDEC: MS-012-AA; Code_IPC: SOIC127P600-8; ComponentLink1Description: Manufacturer URL; ComponentLink1URL: http://www.national.com/; ComponentLink2Description: LMC6062 Datasheet; ComponentLink2URL: http://www.national.com/ds/LM/LMC6062.pdf; ComponentLink3Description: LMC6062 Web Page; ComponentLink3URL: http://www.national.com/pf/LM/LMC6062.html; ComponentLink4Description: M08A Package Page; ComponentLink4URL: http://www.national.com/packaging/folders/m08a.html
footprint M08A_N (SOIC, 8-Leads, Body 4.9x3.9mm, Pitch 1.27mm, IPC Medium Density)
footprint M08A_L (SOIC, 8-Leads, Body 4.9x3.9mm, Pitch 1.27mm, IPC High Density)
footprint M08A_M (SOIC, 8-Leads, Body 4.9x3.9mm, Pitch 1.27mm, IPC Low Density)
pins on every part: 4 V- (power), 8 V+ (power)
part A pins: 1 OUTA (out), 2 INA- (in), 3 INA+ (in)
part B pins: 5 INB+ (in), 6 INB- (in), 7 OUTB (out)

## LMC6062IMX
designator U?
Precision CMOS Dual Micropower Operational Amplifier, 8-pin Narrow SOIC; PartNumber: LMC6062IMX; Manufacturer: National Semiconductor; PackageTopMarking: NSZXTT*LMC60*62IM; PowerWise: N; CompType: Amplifiers; High-Reliability: Y; DatasheetVersion: Feb-2001; PackageVersion: revM, May-2009; PackageReference: M08A; PackageDescription: SOIC Narrow, 4.9 x 3.9 x 1.45mm, 8 Lead, 1.27mm Pitch; RoHS: N; PinCount: 8; Code_JEDEC: MS-012-AA; Code_IPC: SOIC127P600-8; ComponentLink1Description: Manufacturer URL; ComponentLink1URL: http://www.national.com/; ComponentLink2Description: LMC6062 Datasheet; ComponentLink2URL: http://www.national.com/ds/LM/LMC6062.pdf; ComponentLink3Description: LMC6062 Web Page; ComponentLink3URL: http://www.national.com/pf/LM/LMC6062.html; ComponentLink4Description: M08A Package Page; ComponentLink4URL: http://www.national.com/packaging/folders/m08a.html
footprint M08A_N (SOIC, 8-Leads, Body 4.9x3.9mm, Pitch 1.27mm, IPC Medium Density)
footprint M08A_L (SOIC, 8-Leads, Body 4.9x3.9mm, Pitch 1.27mm, IPC High Density)
footprint M08A_M (SOIC, 8-Leads, Body 4.9x3.9mm, Pitch 1.27mm, IPC Low Density)
pins on every part: 4 V- (power), 8 V+ (power)
part A pins: 1 OUTA (out), 2 INA- (in), 3 INA+ (in)
part B pins: 5 INB+ (in), 6 INB- (in), 7 OUTB (out)

## LMC6062IN
designator U?
Precision CMOS Dual Micropower Operational Amplifier, 8-pin MDIP; PartNumber: LMC6062IN; Manufacturer: National Semiconductor; PackageTopMarking: NSUZXYTTE#*LMC6062*IN; PowerWise: N; CompType: Amplifiers; High-Reliability: Y; DatasheetVersion: Feb-2001; PackageVersion: revG, May-2006; PackageReference: N08E; PackageDescription: MDIP, .365 x .250 x .130in, 8 Lead, .100in Pitch; RoHS: N; PinCount: 8; Code_JEDEC: MS-001-BA; ComponentLink1Description: Manufacturer URL; ComponentLink1URL: http://www.national.com/; ComponentLink2Description: LMC6062 Datasheet; ComponentLink2URL: http://www.national.com/ds/LM/LMC6062.pdf; ComponentLink3Description: LMC6062 Web Page; ComponentLink3URL: http://www.national.com/pf/LM/LMC6062.html; ComponentLink4Description: N08E Package Page; ComponentLink4URL: http://www.national.com/packaging/folders/n08e.html
footprint N08E (DIP, 8-Leads, Row Spacing 7.62mm, Pitch 2.54mm, Body 9.91x6.35mm)
pins on every part: 4 V- (power), 8 V+ (power)
part A pins: 1 OUTA (out), 2 INA- (in), 3 INA+ (in)
part B pins: 5 INB+ (in), 6 INB- (in), 7 OUTB (out)

## LMC6064AIM
designator U?
Precision CMOS Quad Micropower Operational Amplifier, 14-pin Narrow SOIC; PartNumber: LMC6064AIM; Manufacturer: National Semiconductor; PackageTopMarking: NSUZXYTTE#*LMC6064*AIM; PowerWise: N; CompType: Amplifiers; High-Reliability: Y; DatasheetVersion: Apr-2001; PackageVersion: revJ, Jan-1996; PackageReference: M14A; PackageDescription: Molded Package S.O., .150in Wide, 14 Lead; RoHS: N; PinCount: 14; Code_JEDEC: MS-012AB; Code_IPC: SOIC127P600-14; ComponentLink1Description: Manufacturer URL; ComponentLink1URL: http://www.national.com/; ComponentLink2Description: LMC6064 Datasheet; ComponentLink2URL: http://www.national.com/ds/LM/LMC6064.pdf; ComponentLink3Description: LMC6064 Web Page; ComponentLink3URL: http://www.national.com/pf/LM/LMC6064.html; ComponentLink4Description: M14A Package Page; ComponentLink4URL: http://www.national.com/packaging/folders/m14a.html
footprint M14A_N (SOIC, 14-Leads, Body 8.6x3.9mm, Pitch 1.27mm, IPC Medium Density)
footprint M14A_L (SOIC, 14-Leads, Body 8.6x3.9mm, Pitch 1.27mm, IPC High Density)
footprint M14A_M (SOIC, 14-Leads, Body 8.6x3.9mm, Pitch 1.27mm, IPC Low Density)
pins on every part: 4 V+ (power), 11 V- (power)
part A pins: 1 OUT1 (out), 2 IN1- (in), 3 IN1+ (in)
part B pins: 5 IN2+ (in), 6 IN2- (in), 7 OUT2 (out)
part C pins: 8 OUT3 (out), 9 IN3- (in), 10 IN3+ (in)
part D pins: 12 IN4+ (in), 13 IN4- (in), 14 OUT4 (out)

## LMC6064AIM/NOPB
designator U?
Precision CMOS Quad Micropower Operational Amplifier, 14-pin Narrow SOIC, Pb-Free; PartNumber: LMC6064AIM/NOPB; Manufacturer: National Semiconductor; PackageTopMarking: NSUZXYTTE#*LMC6064*AIM; PowerWise: N; CompType: Amplifiers; High-Reliability: Y; DatasheetVersion: Apr-2001; PackageVersion: revJ, Jan-1996; PackageReference: M14A; PackageDescription: Molded Package S.O., .150in Wide, 14 Lead; RoHS: Y; PinCount: 14; Code_JEDEC: MS-012AB; Code_IPC: SOIC127P600-14; ComponentLink1Description: Manufacturer URL; ComponentLink1URL: http://www.national.com/; ComponentLink2Description: LMC6064 Datasheet; ComponentLink2URL: http://www.national.com/ds/LM/LMC6064.pdf; ComponentLink3Description: LMC6064 Web Page; ComponentLink3URL: http://www.national.com/pf/LM/LMC6064.html; ComponentLink4Description: M14A Package Page; ComponentLink4URL: http://www.national.com/packaging/folders/m14a.html
footprint M14A_N (SOIC, 14-Leads, Body 8.6x3.9mm, Pitch 1.27mm, IPC Medium Density)
footprint M14A_L (SOIC, 14-Leads, Body 8.6x3.9mm, Pitch 1.27mm, IPC High Density)
footprint M14A_M (SOIC, 14-Leads, Body 8.6x3.9mm, Pitch 1.27mm, IPC Low Density)
pins on every part: 4 V+ (power), 11 V- (power)
part A pins: 1 OUT1 (out), 2 IN1- (in), 3 IN1+ (in)
part B pins: 5 IN2+ (in), 6 IN2- (in), 7 OUT2 (out)
part C pins: 8 OUT3 (out), 9 IN3- (in), 10 IN3+ (in)
part D pins: 12 IN4+ (in), 13 IN4- (in), 14 OUT4 (out)

## LMC6064AIMX
designator U?
Precision CMOS Quad Micropower Operational Amplifier, 14-pin Narrow SOIC; PartNumber: LMC6064AIMX; Manufacturer: National Semiconductor; PackageTopMarking: NSUZXYTTE#*LMC6064*AIM; PowerWise: N; CompType: Amplifiers; High-Reliability: Y; DatasheetVersion: Apr-2001; PackageVersion: revJ, Jan-1996; PackageReference: M14A; PackageDescription: Molded Package S.O., .150in Wide, 14 Lead; RoHS: N; PinCount: 14; Code_JEDEC: MS-012AB; Code_IPC: SOIC127P600-14; ComponentLink1Description: Manufacturer URL; ComponentLink1URL: http://www.national.com/; ComponentLink2Description: LMC6064 Datasheet; ComponentLink2URL: http://www.national.com/ds/LM/LMC6064.pdf; ComponentLink3Description: LMC6064 Web Page; ComponentLink3URL: http://www.national.com/pf/LM/LMC6064.html; ComponentLink4Description: M14A Package Page; ComponentLink4URL: http://www.national.com/packaging/folders/m14a.html
footprint M14A_N (SOIC, 14-Leads, Body 8.6x3.9mm, Pitch 1.27mm, IPC Medium Density)
footprint M14A_L (SOIC, 14-Leads, Body 8.6x3.9mm, Pitch 1.27mm, IPC High Density)
footprint M14A_M (SOIC, 14-Leads, Body 8.6x3.9mm, Pitch 1.27mm, IPC Low Density)
pins on every part: 4 V+ (power), 11 V- (power)
part A pins: 1 OUT1 (out), 2 IN1- (in), 3 IN1+ (in)
part B pins: 5 IN2+ (in), 6 IN2- (in), 7 OUT2 (out)
part C pins: 8 OUT3 (out), 9 IN3- (in), 10 IN3+ (in)
part D pins: 12 IN4+ (in), 13 IN4- (in), 14 OUT4 (out)